# Altium footprint library PcbLib1.PcbLib: 11 footprints
Each footprint in its own frame and in the unit in brackets; x right, y up, seen from the top. Pads: shape width x height; smd on the part's side, far side on the other; paste and mask are expansions set on the pad; w line width, h text height; cw(c..) or ccw(c..) is an arc to the next point about the centre after c.
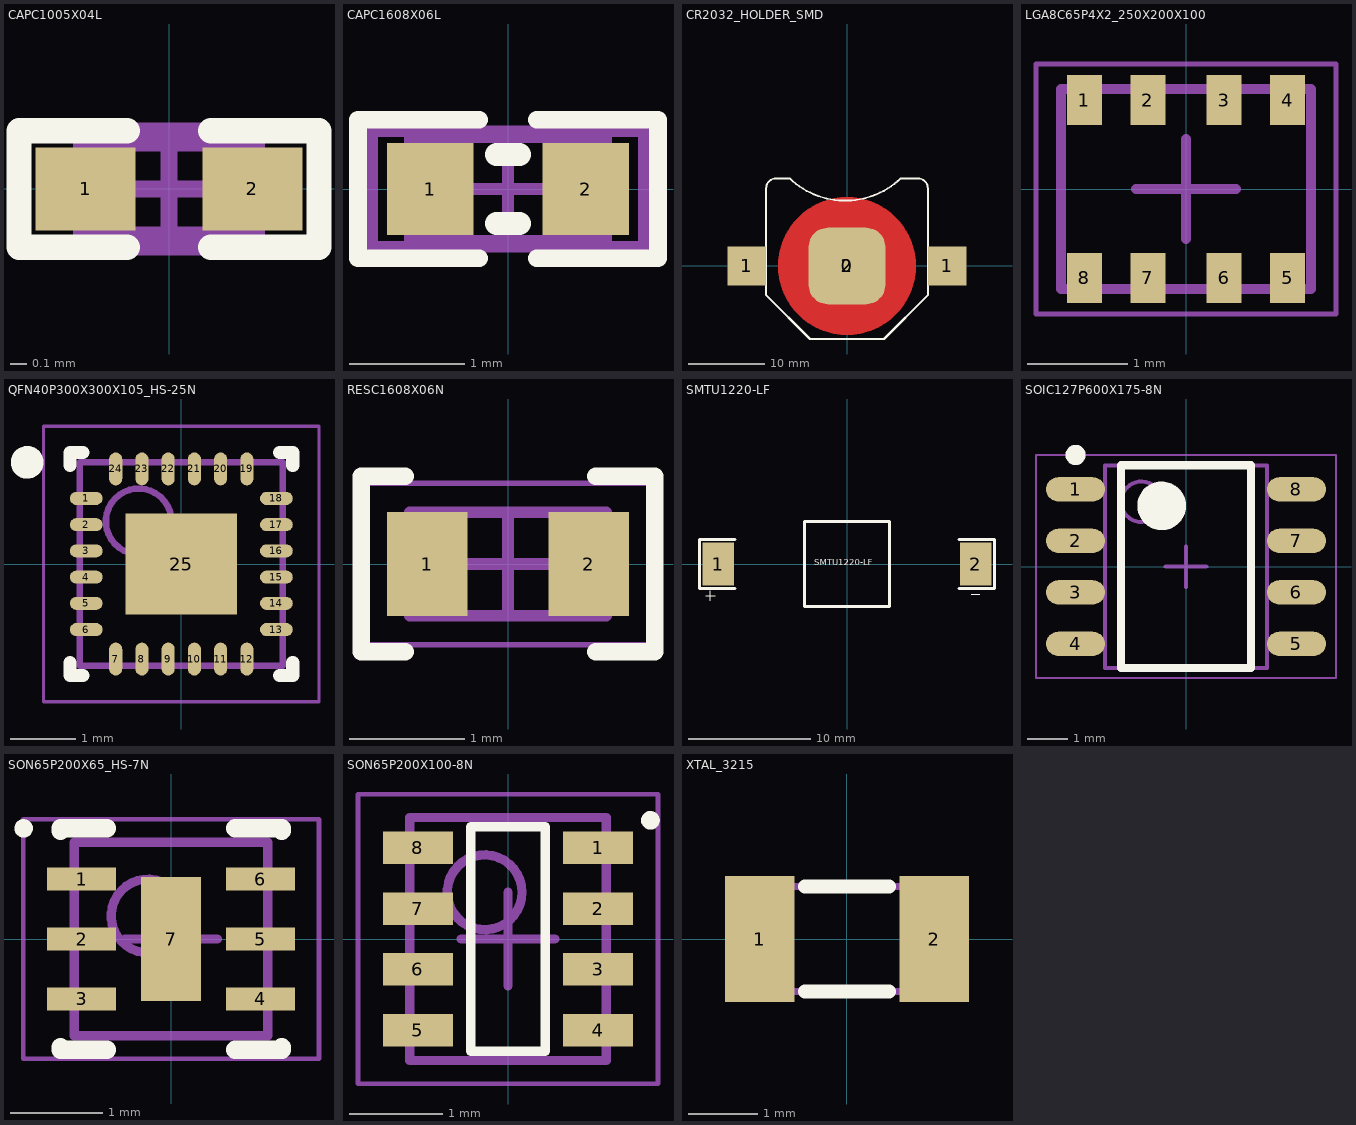
[diagram p0: the footprints below, top view; thin cyan lines are the x and y axes]

## CAPC1005X04L [mm]
pads (2):
  rect 0.6x0.5 smd: 1(-0.5,0) 2(0.5,0)
Top Overlay:
  lines w0.152: -0.25,-0.35 -0.9,-0.35 -0.9,0.35 -0.25,0.35 ; 0.25,-0.35 0.9,-0.35 0.9,0.35 0.25,0.35
Mechanical 13:
  lines w0.1: -0.525,-0.275 0.525,-0.275 0.525,0.275 -0.525,0.275 -0.525,-0.275
Mechanical 15:
  lines w0.1: -0.275,0 0.275,0 ; 0,-0.275 0,0.275 ; -0.9,-0.35 -0.9,0.35 0.9,0.35 0.9,-0.35 -0.9,-0.35
3D body: height 0.5, standoff -0.01, extent -0.508,-0.254 0.508,0.254

## CAPC1608X06L [mm]
pads (2):
  rect 0.75x0.8 smd: 1(-0.675,0) 2(0.675,0)
Top Overlay:
  lines w0.152: -0.25,-0.6 -1.3,-0.6 -1.3,0.6 -0.25,0.6 ; 0.25,-0.6 1.3,-0.6 1.3,0.6 0.25,0.6
  lines w0.2: -0.1,-0.3 0.1,-0.3 ; -0.1,0.3 0.1,0.3
Mechanical 13:
  lines w0.1: -0.85,-0.45 -0.85,0.45 0.85,0.45 0.85,-0.45 -0.85,-0.45
Mechanical 15:
  lines w0.1: -0.45,0 0.45,0 ; 0,-0.45 0,0.45 ; -1.175,-0.5 1.175,-0.5 1.175,0.5 -1.175,0.5 -1.175,-0.5
3D body: height 0.8, standoff 0, extent -0.8,-0.43 0.8,0.43

## CR2032_HOLDER_SMD [mm]
pads (4):
  round 18 on Top Solder paste+0: 0(0,0)
  rect 5.08x5.08 smd: 1(-13.081,0) 1(13.081,0)
  rrect50% 10x10 smd paste-9: 2(0,0)
Top Layer:
  circle w5: c0,0 r6.5
Top Overlay:
  lines w0.254: -4.445,-9.525 4.826,-9.525 10.541,-3.81 10.541,10.16 ccw(c9.271,10.16) 9.271,11.43 6.985,11.43 ; -4.191,-9.525 -4.826,-9.525 -10.541,-3.81 -10.541,10.16 cw(c-9.271,10.16) -9.271,11.43 -7.493,11.43 ccw(c-0.233,19.072) 7.027,11.43
3D body: height 3.96, standoff 0, extent -15.367,-10.274 15.367,9.779

## LGA8C65P4X2_250X200X100 [mm] "LGA, 8-Leads, Body 2.50x2.00mmx1.00mm, Pitch 0.65mm"
height 1
pads (8):
  rect 0.35x0.5 smd: 1(-1.016,0.889) 2(-0.381,0.889) 3(0.381,0.889) 4(1.016,0.889) 5(1.016,-0.889) 6(0.381,-0.889) 7(-0.381,-0.889) 8(-1.016,-0.889)
Mechanical 13:
  lines w0.1: -1.25,-1 1.25,-1 1.25,1 -1.25,1 -1.25,-1
Mechanical 15:
  lines w0.05: -1.5,-1.25 1.5,-1.25 1.5,1.25 -1.5,1.25 -1.5,-1.25
  lines w0.1: -0.5,0 0.5,0 ; 0,-0.5 0,0.5
3D body: height 1, standoff 0.2, extent -1.25,-1 1.25,1

## QFN40P300X300X105_HS-25N [mm] "QFN, 24-Leads, Body 3.00x3.00mm, Pitch 0.40mm, Thermal Pad 1.70x1.54mm, IPC Medium Density"
height 1.05
pads (25):
  oval 0.5x0.2 smd: 1(-1.45,1) 2(-1.45,0.6) 3(-1.45,0.2) 4(-1.45,-0.2) 5(-1.45,-0.6) 6(-1.45,-1) 13(1.45,-1) 14(1.45,-0.6) 15(1.45,-0.2) 16(1.45,0.2) 17(1.45,0.6) 18(1.45,1)
  oval 0.2x0.5 smd: 7(-1,-1.45) 8(-0.6,-1.45) 9(-0.2,-1.45) 10(0.2,-1.45) 11(0.6,-1.45) 12(1,-1.45) 19(1,1.45) 20(0.6,1.45) 21(0.2,1.45) 22(-0.2,1.45) 23(-0.6,1.45) 24(-1,1.45)
  rect 1.7x1.54 smd: 25(0,0)
Top Overlay:
  circle w0.25: c-2.35,1.55 r0.125
  lines w0.2: -1.7,-1.5 -1.7,-1.7 -1.5,-1.7 ; -1.7,1.5 -1.7,1.7 -1.5,1.7 ; 1.5,-1.7 1.7,-1.7 1.7,-1.5 ; 1.5,1.7 1.7,1.7 1.7,1.5
Mechanical 13:
  circle w0.1: c-0.65,0.65 r0.5
  lines w0.1: -1.55,-1.55 1.55,-1.55 1.55,1.55 -1.55,1.55 -1.55,-1.55
Mechanical 15:
  lines w0.05: -2.1,-2.1 2.1,-2.1 2.1,2.1 -2.1,2.1 -2.1,-2.1
  lines w0.1: -0.5,0 0.5,0 ; 0,-0.5 0,0.5
3D body: height 1.05, standoff 0.05, extent -1.55,-1.55 1.55,1.55

## RESC1608X06N [mm] "Chip Resistor, 2-Leads, Body 1.60x0.80mm, IPC Medium Density"
height 0.55
pads (2):
  rect 0.7x0.9 smd: 1(-0.7,0) 2(0.7,0)
Top Overlay:
  lines w0.152: -0.889,-0.762 -1.27,-0.762 -1.27,0.762 -0.889,0.762 ; 0.762,-0.762 1.27,-0.762 1.27,0.762 0.762,0.762
Mechanical 13:
  lines w0.1: -0.85,-0.45 0.85,-0.45 0.85,0.45 -0.85,0.45 -0.85,-0.45
Mechanical 15:
  lines w0.05: -1.3,-0.7 1.3,-0.7 1.3,0.7 -1.3,0.7 -1.3,-0.7
  lines w0.1: -0.45,0 0.45,0 ; 0,-0.45 0,0.45
3D body: height 0.55, standoff 0, extent 0.6,-0.45 0.85,0.45
3D body: height 0.55, standoff 0, extent -0.85,-0.45 -0.6,0.45
3D body: height 0.55, standoff 0, extent -0.6,-0.45 0.6,0.45

## SMTU1220-LF [mm]
pads (2):
  rect 2.6x3.5 smd: 1(-10.55,0) 2(10.55,0)
Top Overlay:
  lines w0.1: -11.6,-2.6 -10.8,-2.6 ; -11.2,-3 -11.2,-2.2 ; 10.2,-2.5 10.9,-2.5 ; 12,2 12.1,2
  lines w0.254: -9.2,-2 -12.1,-2 -12.1,2 -9.2,2 ; 9.2,-2 12.1,-2 12.1,2 ; 9.2,2 12,2 ; -3.5,-3.5 3.5,-3.5 3.5,3.5 -3.5,3.5 -3.5,-3.5
  text "SMTU1220-LF" at -2.7,-0.1 h0.51

## SOIC127P600X175-8N [mm] "SOIC, 8-Leads, Body 4.90x3.90mm, Pitch 1.27mm, IPC Medium Density"
height 1.75
pads (8):
  oval 1.45x0.6 smd: 1(-2.725,1.905) 2(-2.725,0.635) 3(-2.725,-0.635) 4(-2.725,-1.905) 5(2.725,-1.905) 6(2.725,-0.635) 7(2.725,0.635) 8(2.725,1.905)
Top Overlay:
  circle w0.6: c-0.6,1.5 r0.3
  circle w0.25: c-2.725,2.755 r0.125
  lines w0.2: -1.6,-2.5 1.6,-2.5 1.6,2.5 -1.6,2.5 -1.6,-2.5
Mechanical 13:
  circle w0.1: c-1.1,1.6 r0.5
  lines w0.1: -2,-2.5 2,-2.5 2,2.5 -2,2.5 -2,-2.5
Mechanical 15:
  lines w0.05: -3.7,-2.75 3.7,-2.75 3.7,2.75 -3.7,2.75 -3.7,-2.75
  lines w0.1: -0.5,0 0.5,0 ; 0,-0.5 0,0.5
3D body: height 1.75, standoff 0.25, extent -2,-2.5 2,2.5

## SON65P200X65_HS-7N [mm] "SON, 6-Leads, Body 2.00x2.00mm, Pitch 0.65mm, Thermal Pad 1.35x0.65mm, IPC Medium Density"
height 0.65
pads (7):
  rect 0.75x0.25 smd mask+0: 1(-0.97,0.65) 2(-0.97,0) 3(-0.97,-0.65) 4(0.97,-0.65) 5(0.97,0) 6(0.97,0.65)
  rect 0.65x1.35 smd: 7(0,0)
Top Overlay:
  circle w0.1: c-1.6,1.2 r0.05
  lines w0.2: -1.2,-1.175 -1.2,-1.2 -0.695,-1.2 ; -1.2,1.175 -1.2,1.2 -0.695,1.2 ; 0.695,-1.2 1.2,-1.2 1.2,-1.175 ; 0.695,1.2 1.2,1.2 1.2,1.175
Mechanical 13:
  circle w0.1: c-0.25,0.25 r0.4
  lines w0.1: -1.05,-1.05 -1.05,1.05 1.05,1.05 1.05,-1.05 -1.05,-1.05
Mechanical 15:
  lines w0.05: -1.605,-1.3 -1.605,1.3 1.605,1.3 1.605,-1.3 -1.605,-1.3
  lines w0.1: -0.5,0 0.5,0 ; 0,-0.5 0,0.5
3D body: height 0.65, standoff 0.05, extent -1.05,-1.05 1.05,1.05

## SON65P200X100-8N [mm] "SON, 8-Leads, Body 2.50x2.00mm, Pitch 0.65mm, IPC Medium Density"
height 1
pads (8):
  rect 0.75x0.35 smd mask+0: 1(0.965,0.975) 2(0.965,0.325) 3(0.965,-0.325) 4(0.965,-0.975) 5(-0.965,-0.975) 6(-0.965,-0.325) 7(-0.965,0.325) 8(-0.965,0.975)
Top Overlay:
  circle w0.1: c1.524,1.27 r0.05
  lines w0.1: -0.4,-1.2 0.4,-1.2 0.4,1.2 -0.4,1.2 -0.4,-1.2
Mechanical 13:
  circle w0.1: c-0.25,0.5 r0.4
  lines w0.1: -1.05,-1.3 -1.05,1.3 1.05,1.3 1.05,-1.3 -1.05,-1.3
Mechanical 15:
  lines w0.05: -1.605,-1.55 -1.605,1.55 1.605,1.55 1.605,-1.55 -1.605,-1.55
  lines w0.1: -0.5,0 0.5,0 ; 0,-0.5 0,0.5
3D body: height 1, standoff 0.16, extent -1.05,-1.3 1.05,1.3

## XTAL_3215 [mm]
pads (2):
  rect 1x1.8 smd: 1(-1.25,0) 2(1.25,0)
Top Overlay:
  lines w0.2: -0.6,-0.75 0.6,-0.75 ; -0.6,0.75 0.6,0.75
Mechanical 3:
  lines w0.1: -1.6,-0.55 cw(c-1.6,-0.75) -1.4,-0.75 1.4,-0.75 cw(c1.6,-0.75) 1.6,-0.55 1.6,0.55 cw(c1.6,0.75) 1.4,0.75 -1.4,0.75 cw(c-1.6,0.75) -1.6,0.55 -1.6,-0.55
3D body: height 0.81, standoff 0.15, extent -1.2,-0.6 1.2,0.6
3D body: height 0.81, standoff 0, extent -1.6,-0.75 1.6,0.75